# EAGLE library part KA3525A (library Fairchild_By_element14_Batch_1)
SMPS Controller
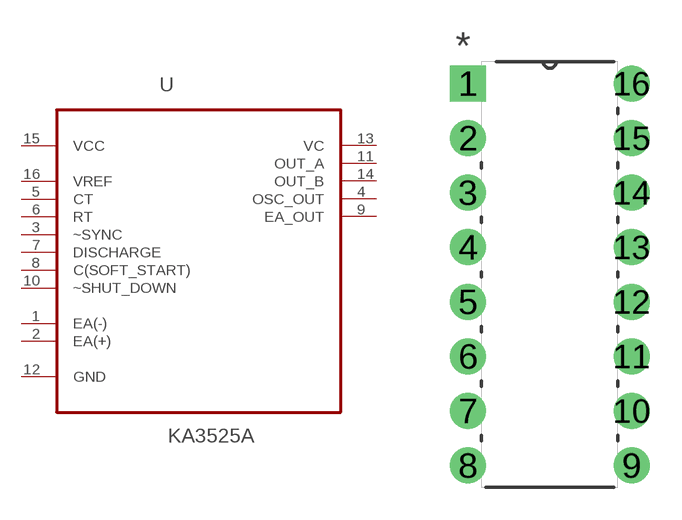
[diagram p200: symbol with the pads of DIP254P762X508-16; footprint DIP254P762X508-16]

Designator prefix U

## KA3525A (MPN: KA3525A; OC_FARNELL: 1608934; OC_NEWARK: 58K1770; PACKAGE: DIP-16; SUPPLIER: FAIRCHILD SEMICONDUCTOR)  [DIP254P762X508-16]
1  EA(-)  in
2  EA(+)  in
3  ~SYNC  in
4  OSC_OUT  out
5  CT  in
6  RT  in
7  DISCHARGE  in
8  C(SOFT_START)  pas
9  EA_OUT  out
10  ~SHUT_DOWN  in
11  OUT_A  out
12  GND  pas
13  VC  out
14  OUT_B  out
15  VCC  pwr
16  VREF  in

## Footprint DIP254P762X508-16 (pad centres in mm)
drill 1.118 square: 1 -7.62,17.78
drill 1.118: 2 -7.62,15.24; 3 -7.62,12.7; 4 -7.62,10.16; 5 -7.62,7.62; 6 -7.62,5.08; 7 -7.62,2.54; 8 -7.62,0; 9 0,0; 10 0,2.54; 11 0,5.08; 12 0,7.62; 13 0,10.16; 14 0,12.7; 15 0,15.24; 16 0,17.78